# EAGLE library part MAX4238 (library FHD-Actives)
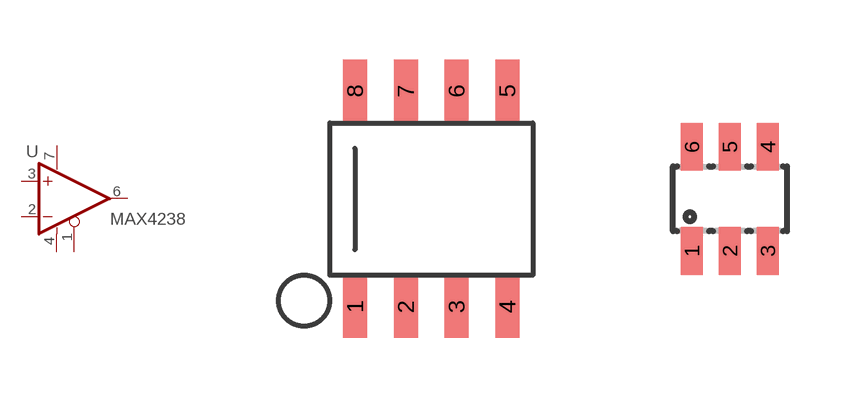
[diagram p0: symbol with the pads of SO-8; footprints SO-8, SOT23-6L]

Designator prefix -

## MAX4238ASA  [SO-8]
1  SHDN
2  -IN  in
3  +IN  in
4  VCC-  pwr
6  OUT  out
7  VCC+  pwr

## MAX4238AUT  [SOT23-6L]
1  OUT  out
2  VCC-  pwr
3  +IN  in
4  -IN  in
5  SHDN
6  VCC+  pwr

## Footprint SO-8 (pad centres in mm)
smd 0.6 x 1.55: 1 -1.905,-2.69; 2 -0.635,-2.69; 3 0.635,-2.69; 4 1.905,-2.69; 5 1.905,2.71; 6 0.635,2.71; 7 -0.635,2.71; 8 -1.905,2.71

## Footprint SOT23-6L (pad centres in mm)
Small Outline Transistor
smd 0.55 x 1.2: 1 -0.95,-1.3; 2 0,-1.3; 3 0.95,-1.3; 4 0.95,1.3; 5 0,1.3; 6 -0.95,1.3